# Altium schematic symbol library CRCW0603120RFKEA.SchLib: 1 symbol
Pins are listed as number, name and electrical type; pins without a type are passive.

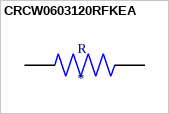
[diagram p0: symbol CRCW0603120RFKEA]

## CRCW0603120RFKEA
designator R
120 Ohms Â±1% 0.1W, 1/10W Chip Resistor 0603 _1608 Metric_ Automotive AEC-Q200 Thick Film; MF: Vishay; MP: CRCW0603120RFKEA; Package: 1508 Vishay; Availability: Unavailable; Value: *; Price: None; SnapEDA_Link: https://www.snapeda.com/parts/CRCW0603120RFKEA/Vishay/view-part/214662/?ref=snap
footprint RESC1508X50N
pins: 1, 2